# EAGLE library part TEENSY3_6-ALI_NO-USB-HOST (library CMU-ArtFab)
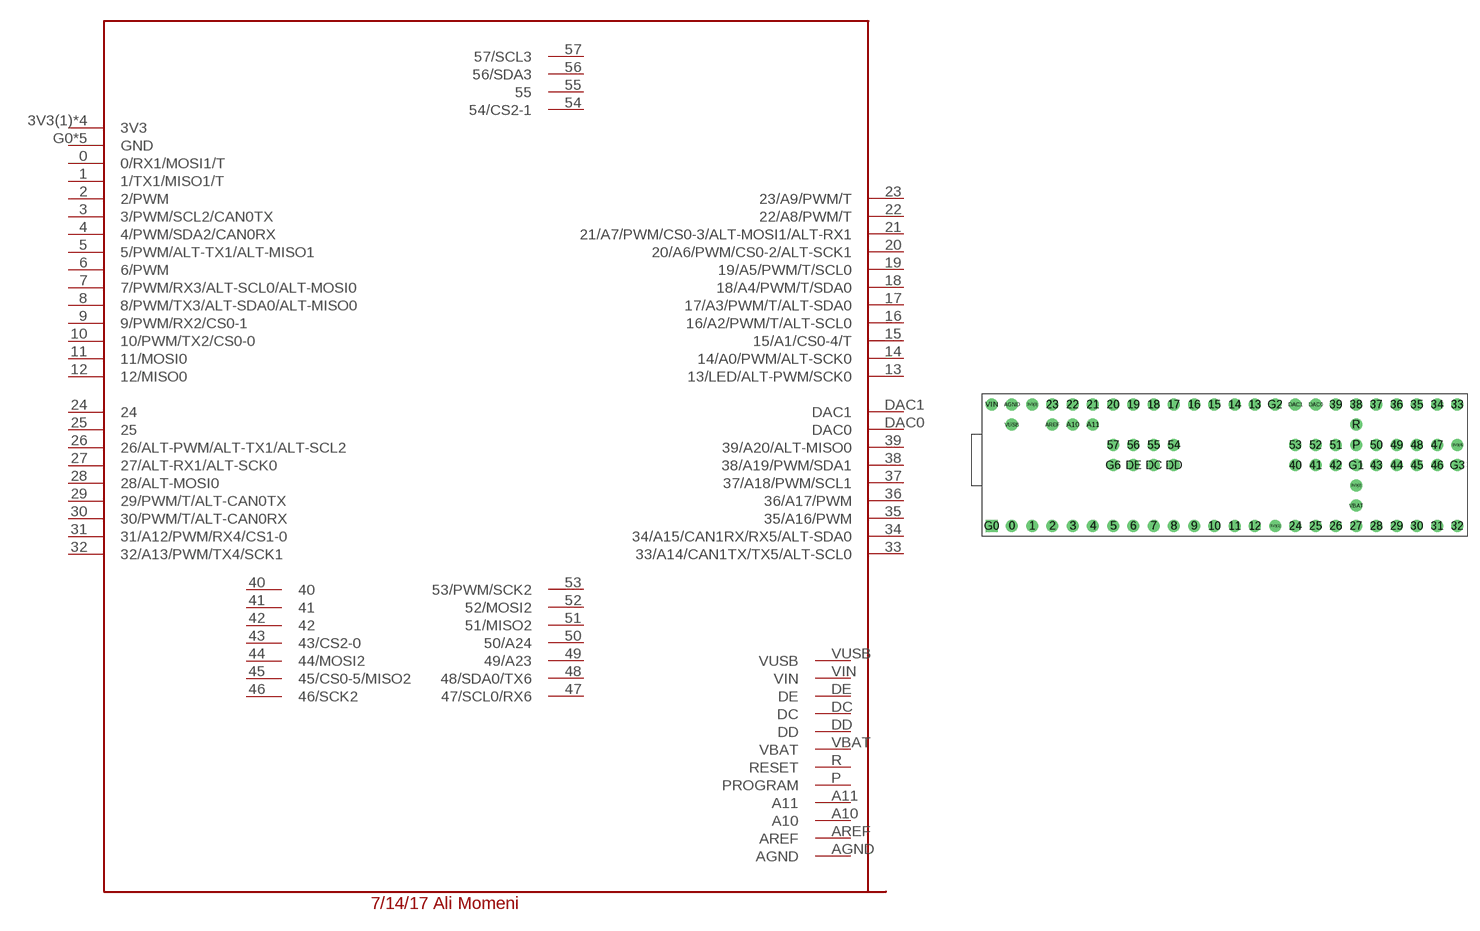
[diagram p24: symbol with the pads of TEENSY3-6_NO-USB-HOST; footprint TEENSY3-6_NO-USB-HOST]

Designator prefix -

## TEENSY3_6-ALI_NO-USB-HOST  [TEENSY3-6_NO-USB-HOST]
0  0/RX1/MOSI1/T
1  1/TX1/MISO1/T
2  2/PWM
3  3/PWM/SCL2/CAN0TX
3V3(1)  3V3
3V3(2)  3V3
3V3(3)  3V3
3V3(4)  3V3
4  4/PWM/SDA2/CAN0RX
5  5/PWM/ALT-TX1/ALT-MISO1
6  6/PWM
7  7/PWM/RX3/ALT-SCL0/ALT-MOSI0
8  8/PWM/TX3/ALT-SDA0/ALT-MISO0
9  9/PWM/RX2/CS0-1
10  10/PWM/TX2/CS0-0
11  11/MOSI0
12  12/MISO0
13  13/LED/ALT-PWM/SCK0
14  14/A0/PWM/ALT-SCK0
15  15/A1/CS0-4/T
16  16/A2/PWM/T/ALT-SCL0
17  17/A3/PWM/T/ALT-SDA0
18  18/A4/PWM/T/SDA0
19  19/A5/PWM/T/SCL0
20  20/A6/PWM/CS0-2/ALT-SCK1
21  21/A7/PWM/CS0-3/ALT-MOSI1/ALT-RX1
22  22/A8/PWM/T
23  23/A9/PWM/T
24  24
25  25
26  26/ALT-PWM/ALT-TX1/ALT-SCL2
27  27/ALT-RX1/ALT-SCK0
28  28/ALT-MOSI0
29  29/PWM/T/ALT-CAN0TX
30  30/PWM/T/ALT-CAN0RX
31  31/A12/PWM/RX4/CS1-0
32  32/A13/PWM/TX4/SCK1
33  33/A14/CAN1TX/TX5/ALT-SCL0
34  34/A15/CAN1RX/RX5/ALT-SDA0
35  35/A16/PWM
36  36/A17/PWM
37  37/A18/PWM/SCL1
38  38/A19/PWM/SDA1
39  39/A20/ALT-MISO0
40  40
41  41
42  42
43  43/CS2-0
44  44/MOSI2
45  45/CS0-5/MISO2
46  46/SCK2
47  47/SCL0/RX6
48  48/SDA0/TX6
49  49/A23
50  50/A24
51  51/MISO2
52  52/MOSI2
53  53/PWM/SCK2
54  54/CS2-1
55  55
56  56/SDA3
57  57/SCL3
A10  A10
A11  A11
AGND  AGND
AREF  AREF
DAC0  DAC0
DAC1  DAC1
DC  DC
DD  DD
DE  DE
G0  GND
G1  GND
G2  GND
G3  GND
G6  GND
P  PROGRAM
R  RESET
VBAT  VBAT
VIN  VIN
VUSB  VUSB

## Footprint TEENSY3-6_NO-USB-HOST (pad centres in mm)
drill 1: 0 3.81,1.27; 1 6.35,1.27; 2 8.89,1.27; 3 11.43,1.27; 3V3(1) 36.83,1.27; 3V3(2) 46.99,6.35; 3V3(3) 6.35,16.51; 3V3(4) 59.69,11.43; 4 13.97,1.27; 5 16.51,1.27; 6 19.05,1.27; 7 21.59,1.27; 8 24.13,1.27; 9 26.67,1.27; 10 29.21,1.27; 11 31.75,1.27; 12 34.29,1.27; 13 34.29,16.51; 14 31.75,16.51; 15 29.21,16.51; 16 26.67,16.51; 17 24.13,16.51; 18 21.59,16.51; 19 19.05,16.51; 20 16.51,16.51; 21 13.97,16.51; 22 11.43,16.51; 23 8.89,16.51; 24 39.37,1.27; 25 41.91,1.27; 26 44.45,1.27; 27 46.99,1.27; 28 49.53,1.27; 29 52.07,1.27; 30 54.61,1.27; 31 57.15,1.27; 32 59.69,1.27; 33 59.69,16.51; 34 57.15,16.51; 35 54.61,16.51; 36 52.07,16.51; 37 49.53,16.51; 38 46.99,16.51; 39 44.45,16.51; 40 39.37,8.89; 41 41.91,8.89; 42 44.45,8.89; 43 49.53,8.89; 44 52.07,8.89; 45 54.61,8.89; 46 57.15,8.89; 47 57.15,11.43; 48 54.61,11.43; 49 52.07,11.43; 50 49.53,11.43; 51 44.45,11.43; 52 41.91,11.43; 53 39.37,11.43; 54 24.13,11.43; 55 21.59,11.43; 56 19.05,11.43; 57 16.51,11.43; A10 11.43,13.97; A11 13.97,13.97; AGND 3.81,16.51; AREF 8.89,13.97; DAC0 41.91,16.51; DAC1 39.37,16.51; DC 21.59,8.89; DD 24.13,8.89; DE 19.05,8.89; G1 46.99,8.89; G2 36.83,16.51; G3 59.69,8.89; G6 16.51,8.89; P 46.99,11.43; R 46.99,13.97; VBAT 46.99,3.81; VIN 1.27,16.51; VUSB 3.81,13.97
drill 1 square: G0 1.27,1.27